# Altium schematic symbol library XH，VH.SchLib: 26 symbols
Pins are listed as number, name and electrical type; pins without a type are passive.

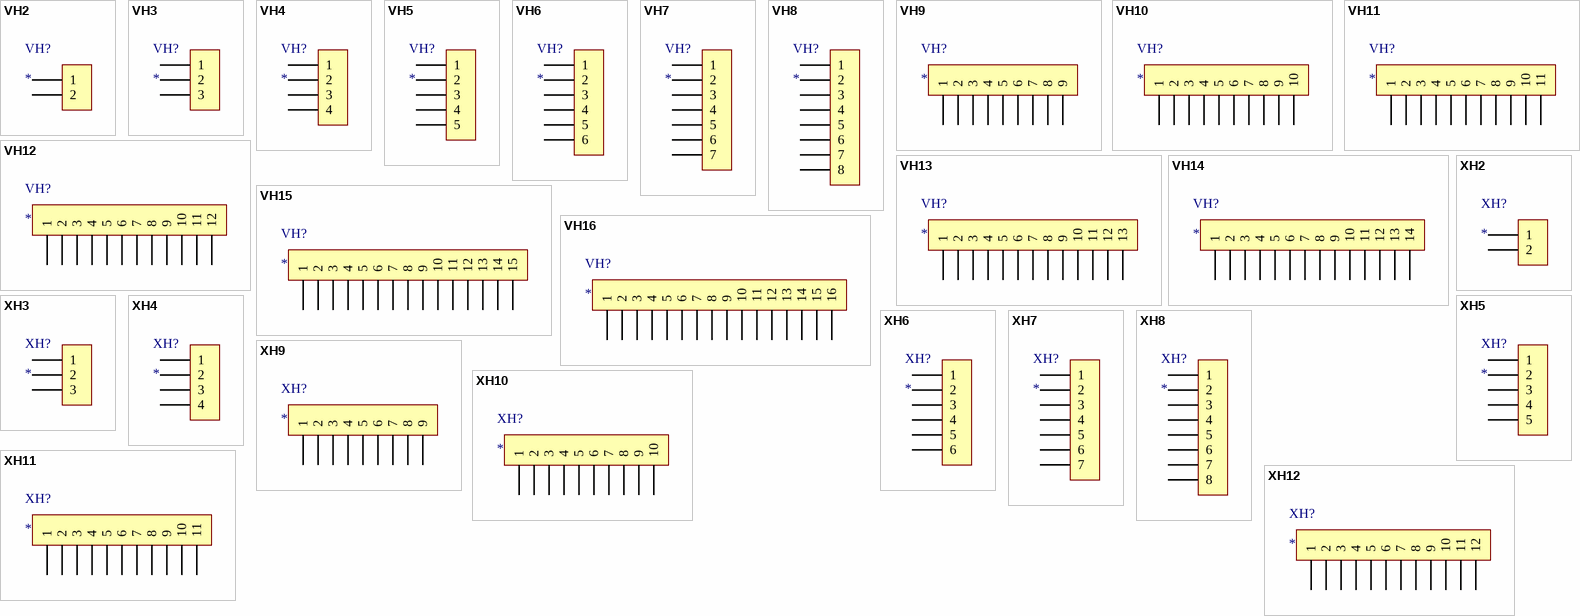
[diagram p0: symbols VH2 to XH12]

## VH2
designator VH?
VH3.96连接器母座
pins: 1, 2

## VH3
designator VH?
VH3.96连接器母座
pins: 1, 2, 3

## VH4
designator VH?
VH3.96连接器母座
pins: 1, 2, 3, 4

## VH5
designator VH?
VH3.96连接器母座
pins: 1, 2, 3, 4, 5

## VH6
designator VH?
VH3.96连接器母座
pins: 1, 2, 3, 4, 5, 6

## VH7
designator VH?
VH3.96连接器母座
pins: 1, 2, 3, 4, 5, 6, 7

## VH8
designator VH?
VH3.96连接器母座
pins: 1, 2, 3, 4, 5, 6, 7, 8

## VH9
designator VH?
VH3.96连接器母座
pins: 1, 2, 3, 4, 5, 6, 7, 8, 9

## VH10
designator VH?
VH3.96连接器母座
pins: 1, 2, 3, 4, 5, 6, 7, 8, 9, 10

## VH11
designator VH?
VH3.96连接器母座
pins: 1, 2, 3, 4, 5, 6, 7, 8, 9, 10, 11

## VH12
designator VH?
VH3.96连接器母座
pins: 1, 2, 3, 4, 5, 6, 7, 8, 9, 10, 11, 12

## VH13
designator VH?
VH3.96连接器母座
pins: 1, 2, 3, 4, 5, 6, 7, 8, 9, 10, 11, 12, 13

## VH14
designator VH?
VH3.96连接器母座
pins: 1, 2, 3, 4, 5, 6, 7, 8, 9, 10, 11, 12, 13, 14

## VH15
designator VH?
VH3.96连接器母座
pins: 1, 2, 3, 4, 5, 6, 7, 8, 9, 10, 11, 12, 13, 14, 15

## VH16
designator VH?
VH3.96连接器母座
pins: 1, 2, 3, 4, 5, 6, 7, 8, 9, 10, 11, 12, 13, 14, 15, 16

## XH2
designator XH?
XH2.54连接器母座
pins: 1, 2

## XH3
designator XH?
XH2.54连接器母座
pins: 1, 2, 3

## XH4
designator XH?
XH2.54连接器母座
pins: 1, 2, 3, 4

## XH5
designator XH?
XH2.54连接器母座
pins: 1, 2, 3, 4, 5

## XH6
designator XH?
XH2.54连接器母座
pins: 1, 2, 3, 4, 5, 6

## XH7
designator XH?
XH2.54连接器母座
pins: 1, 2, 3, 4, 5, 6, 7

## XH8
designator XH?
XH2.54连接器母座
pins: 1, 2, 3, 4, 5, 6, 7, 8

## XH9
designator XH?
XH2.54连接器母座
pins: 1, 2, 3, 4, 5, 6, 7, 8, 9

## XH10
designator XH?
XH2.54连接器母座
pins: 1, 2, 3, 4, 5, 6, 7, 8, 9, 10

## XH11
designator XH?
XH2.54连接器母座
pins: 1, 2, 3, 4, 5, 6, 7, 8, 9, 10, 11

## XH12
designator XH?
XH2.54连接器母座
pins: 1, 2, 3, 4, 5, 6, 7, 8, 9, 10, 11, 12